# Altium footprint library PowerSO-36.PcbLib: 1 footprints
Each footprint in its own frame and in the unit in brackets; x right, y up, seen from the top. Pads: shape width x height; smd on the part's side, far side on the other; paste and mask are expansions set on the pad; w line width, h text height; cw(c..) or ccw(c..) is an arc to the next point about the centre after c.
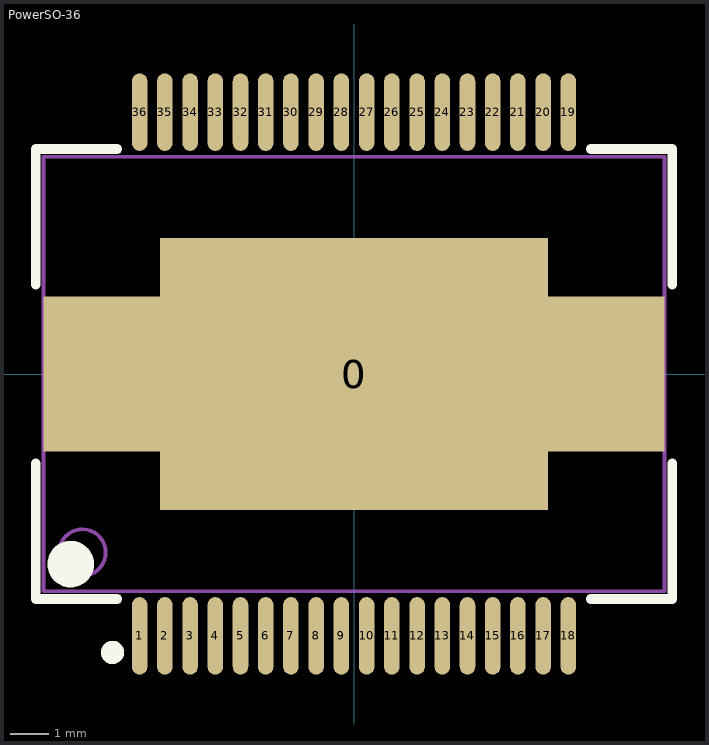
[diagram p0: the footprint, top view; thin cyan lines are the x and y axes]

## PowerSO-36 [mm]
pads (38):
  rect 10x7 smd: 0(0,0)
  rect 16x4 smd: 0(0,0)
  oval 0.4x2 smd mask+0.051: 1(-5.525,-6.75) 2(-4.875,-6.75) 3(-4.225,-6.75) 4(-3.575,-6.75) 5(-2.925,-6.75) 6(-2.275,-6.75) 7(-1.625,-6.75) 8(-0.975,-6.75) 9(-0.325,-6.75) 10(0.325,-6.75) 11(0.975,-6.75) 12(1.625,-6.75) 13(2.275,-6.75) 14(2.925,-6.75) 15(3.575,-6.75) 16(4.225,-6.75) 17(4.875,-6.75) 18(5.525,-6.75) 19(5.525,6.75) 20(4.875,6.75) 21(4.225,6.75) 22(3.575,6.75) 23(2.925,6.75) 24(2.275,6.75) 25(1.625,6.75) 26(0.975,6.75) 27(0.325,6.75) 28(-0.325,6.75) 29(-0.975,6.75) 30(-1.625,6.75) 31(-2.275,6.75) 32(-2.925,6.75) 33(-3.575,6.75) 34(-4.225,6.75) 35(-4.875,6.75) 36(-5.525,6.75)
Top Overlay:
  circle w0.3: c-6.225,-7.175 r0.15
  circle w0.6: c-7.3,-4.9 r0.3
  lines w0.254: -8.2,-2.3 -8.2,-5.8 -6.1,-5.8 ; -8.2,2.3 -8.2,5.8 -6.1,5.8 ; 6.1,-5.8 8.2,-5.8 8.2,-2.3 ; 6.1,5.8 8.2,5.8 8.2,2.3
Mechanical 13:
  circle w0.1: c-7,-4.6 r0.6
  lines w0.1: -8,-5.6 -8,5.6 8,5.6 8,-5.6 -8,-5.6